# Altium schematic symbol library mbed.SchLib: 3 symbols
Pins are listed as number, name and electrical type; pins without a type are passive.

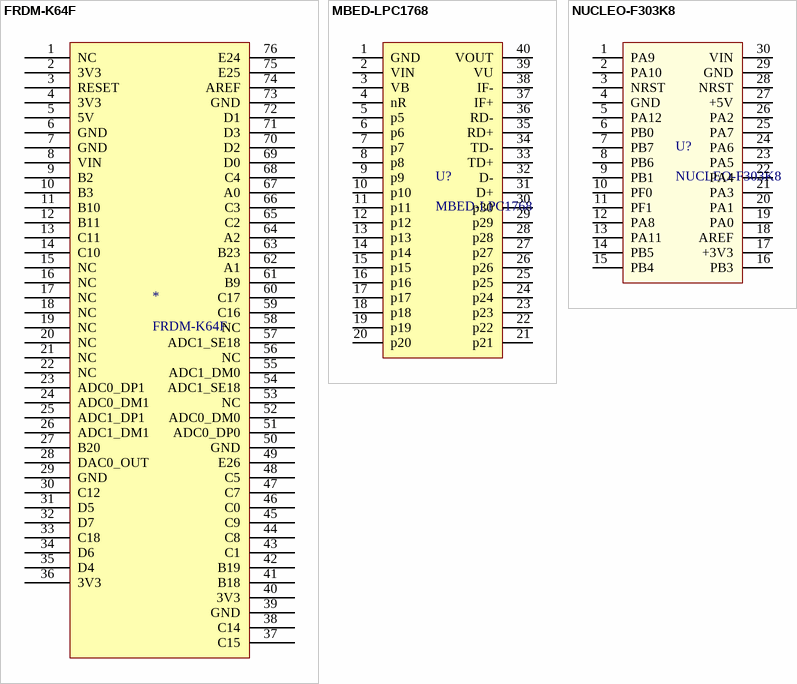
[diagram p0: symbols FRDM-K64F to NUCLEO-F303K8]

## FRDM-K64F
designator *
footprint FRDM-K64F
footprint FRDM-K64F-NO-OVERLAY
footprint FRDM-K64F-SMT
footprint FRDM-K64F-SMT-NO-OVERLAY
pins: 1 NC, 2 3V3, 3 RESET, 4 3V3, 5 5V, 6 GND, 7 GND, 8 VIN, 9 B2, 10 B3, 11 B10, 12 B11, 13 C11, 14 C10, 15 NC, 16 NC, 17 NC, 18 NC, 19 NC, 20 NC, 21 NC, 22 NC, 23 ADC0_DP1, 24 ADC0_DM1, 25 ADC1_DP1, 26 ADC1_DM1, 27 B20, 28 DAC0_OUT, 29 GND, 30 C12, 31 D5, 32 D7, 33 C18, 34 D6, 35 D4, 36 3V3, 37 C15, 38 C14, 39 GND, 40 3V3, 41 B18, 42 B19, 43 C1, 44 C8, 45 C9, 46 C0, 47 C7, 48 C5, 49 E26, 50 GND, 51 ADC0_DP0, 52 ADC0_DM0, 53 NC, 54 ADC1_SE18, 55 ADC1_DM0, 56 NC, 57 ADC1_SE18, 58 NC, 59 C16, 60 C17, 61 B9, 62 A1, 63 B23, 64 A2, 65 C2, 66 C3, 67 A0, 68 C4, 69 D0, 70 D2, 71 D3, 72 D1, 73 GND, 74 AREF, 75 E25, 76 E24

## MBED-LPC1768
designator U?
footprint MBED-LPC1768
pins: 1 GND, 2 VIN, 3 VB, 4 nR, 5 p5, 6 p6, 7 p7, 8 p8, 9 p9, 10 p10, 11 p11, 12 p12, 13 p13, 14 p14, 15 p15, 16 p16, 17 p17, 18 p18, 19 p19, 20 p20, 21 p21, 22 p22, 23 p23, 24 p24, 25 p25, 26 p26, 27 p27, 28 p28, 29 p29, 30 p30, 31 D+, 32 D-, 33 TD+, 34 TD-, 35 RD+, 36 RD-, 37 IF+, 38 IF-, 39 VU, 40 VOUT

## NUCLEO-F303K8
designator U?
footprint NUCLEO-F303K8
pins: 1 PA9, 2 PA10, 3 NRST, 4 GND, 5 PA12, 6 PB0, 7 PB7, 8 PB6, 9 PB1, 10 PF0, 11 PF1, 12 PA8, 13 PA11, 14 PB5, 15 PB4, 16 PB3, 17 +3V3, 18 AREF, 19 PA0, 20 PA1, 21 PA3, 22 PA4, 23 PA5, 24 PA6, 25 PA7, 26 PA2, 27 +5V, 28 NRST, 29 GND, 30 VIN